# Altium schematic symbol library MUX_ADG1606_1.Schlib: 1 symbol
Pins are listed as number, name and electrical type; pins without a type are passive.

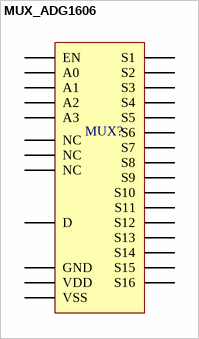
[diagram p0: symbol MUX_ADG1606]

## MUX_ADG1606
designator MUX?
pins: 1 VDD (power) "Most Positive Power Supply Potential.", 2 NC "No Connect.", 3 NC "No Connect.", 4 S16 "Source Terminal 16. This pin can be an input or an output.", 5 S15 "Source Terminal 15. This pin can be an input or an output.", 6 S14 "Source Terminal 14. This pin can be an input or an output.", 7 S13 "Source Terminal 13. This pin can be an input or an output.", 8 S12 "Source Terminal 12. This pin can be an input or an output.", 9 S11 "Source Terminal 11. This pin can be an input or an output.", 10 S10 "Source Terminal 10. This pin can be an input or an output.", 11 S9 "Source Terminal 9. This pin can be an input or an output.", 12 GND "Ground (0 V) Reference.", 13 NC "No Connect.", 14 A3 "Logic Control Input.", 15 A2 "Logic Control Input.", 16 A1 "Logic Control Input.", 17 A0 "Logic Control Input.", 18 EN "Active High Digital Input. When this pin is low, the device is disabled and all switches are turned off. When this pin is high, the Ax logic inputs determine which switch is turned on.", 19 S1 "Source Terminal 1. This pin can be an input or an output.", 20 S2 "Source Terminal 2. This pin can be an input or an output.", 21 S3 "Source Terminal 3. This pin can be an input or an output.", 22 S4 "Source Terminal 4. This pin can be an input or an output.", 23 S5 "Source Terminal 5. This pin can be an input or an output.", 24 S6 "Source Terminal 6. This pin can be an input or an output.", 25 S7 "Source Terminal 7. This pin can be an input or an output.", 26 S8 "Source Terminal 8. This pin can be an input or an output.", 27 VSS "Most Negative Power Supply Potential. In single-supply applications, this pin can be connected to ground.", 28 D "Drain Terminal. This pin can be an input or an output."